# Altium footprint library PCB_ConnectorCable.PcbLib: 8 footprints
Each footprint in its own frame and in the unit in brackets; x right, y up, seen from the top. Pads: shape width x height; smd on the part's side, far side on the other; paste and mask are expansions set on the pad; w line width, h text height; cw(c..) or ccw(c..) is an arc to the next point about the centre after c.
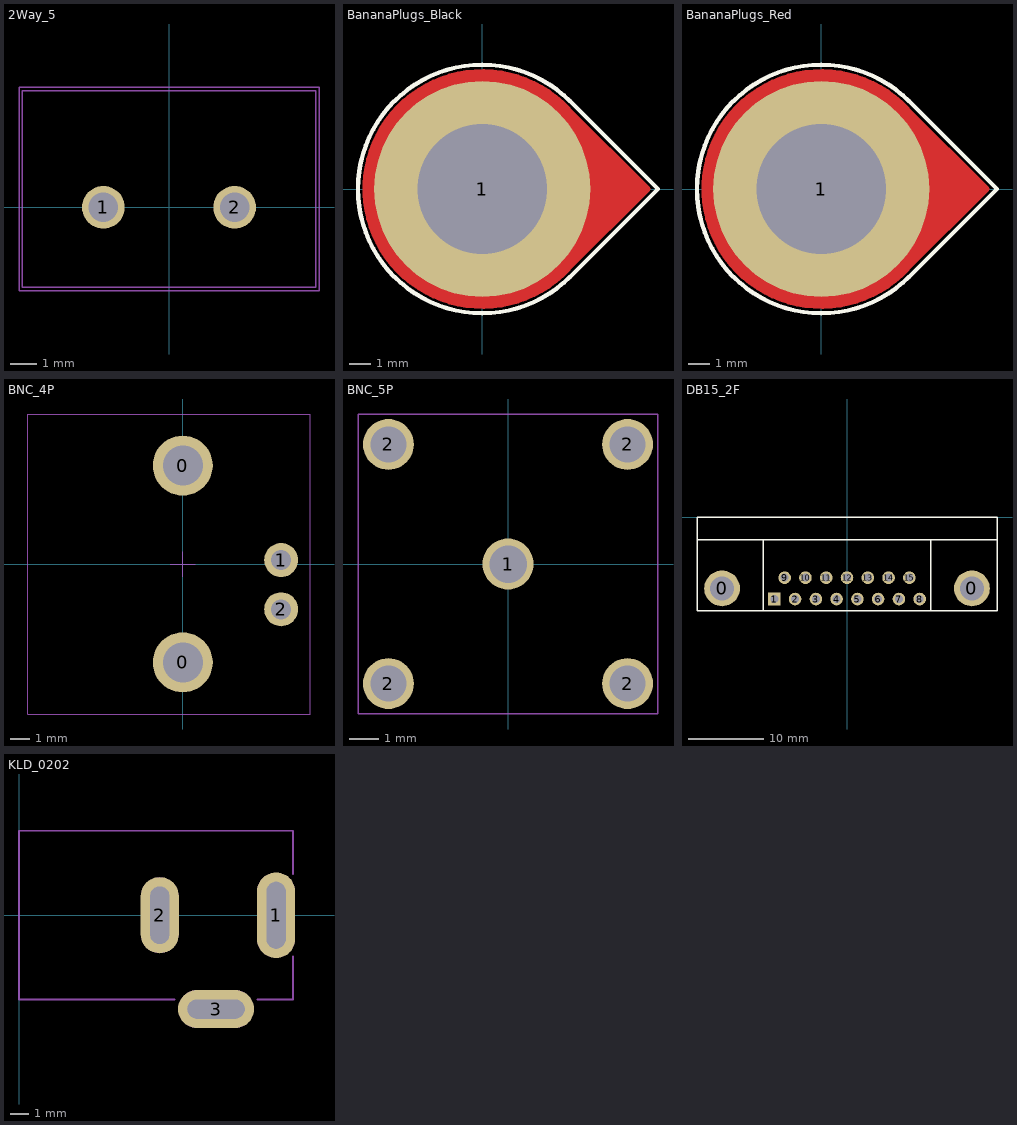
[diagram p0: the footprints below, top view; thin cyan lines are the x and y axes]

## 2Way_5 [mil]
height 501.97
pads (2):
  round 64 hole 44: 1(-98.43,0) 2(98.43,0)
Mechanical 13:
  lines w2: -220,-120 220,-120 220,175 -220,175 -220,-120
T-Component:
  lines w2: -225,-125 -225,180 225,180 225,-125 -225,-125
3D body: height 590.55, standoff -137.8, extent -224.65,-185 197.8,189.02

## BananaPlugs_Black [mil]
pads (1):
  round 400 hole 240: 1(0,0)
Top Layer:
  region: 158.64,-146.59 152.39,-153.35 131.77,-171.73 108.23,-187.46 82.84,-199.99 56.02,-209.09 28.25,-214.61 0,-216.46 -28.25,-214.61 -56.02,-209.09 -82.84,-199.99 -108.23,-187.46 -131.77,-171.73 -153.06,-153.06 -171.73,-131.77 -187.46,-108.23 -199.99,-82.84 -209.09,-56.02 -214.61,-28.25 -216.46,0 -214.61,28.25 -209.09,56.02 -199.99,82.84 -187.46,108.23 -171.73,131.77 -153.06,153.06 -131.77,171.73 -108.23,187.46 -82.84,199.99 -56.02,209.09 -28.25,214.61 0,216.46 28.25,214.61 56.02,209.09 82.84,199.99 108.23,187.46 131.77,171.73 152.39,153.35 158.64,146.59 159,146 305,0
  lines w12: 158.64,-146.59 cw(c0,0) 158.64,146.59 ; 159,-146 305,0 159,146
Bottom Layer:
  region: 158.64,-146.59 152.39,-153.35 131.77,-171.73 108.23,-187.46 82.84,-199.99 56.02,-209.09 28.25,-214.61 0,-216.46 -28.25,-214.61 -56.02,-209.09 -82.84,-199.99 -108.23,-187.46 -131.77,-171.73 -153.06,-153.06 -171.73,-131.77 -187.46,-108.23 -199.99,-82.84 -209.09,-56.02 -214.61,-28.25 -216.46,0 -214.61,28.25 -209.09,56.02 -199.99,82.84 -187.46,108.23 -171.73,131.77 -153.06,153.06 -131.77,171.73 -108.23,187.46 -82.84,199.99 -56.02,209.09 -28.25,214.61 0,216.46 28.25,214.61 56.02,209.09 82.84,199.99 108.23,187.46 131.77,171.73 152.39,153.35 158.64,146.59 159,146 305,0
Top Overlay:
  lines w8: 162.63,-162.63 cw(c0,0) 162.63,162.63 325.27,0 162.63,-162.63
Bottom Overlay:
  lines w8: 162.63,-162.63 cw(c0,0) 162.63,162.63 325.27,0 162.63,-162.63
Top Solder:
  region: 158.64,-146.59 152.39,-153.35 131.77,-171.73 108.23,-187.46 82.84,-199.99 56.02,-209.09 28.25,-214.61 0,-216.46 -28.25,-214.61 -56.02,-209.09 -82.84,-199.99 -108.23,-187.46 -131.77,-171.73 -153.06,-153.06 -171.73,-131.77 -187.46,-108.23 -199.99,-82.84 -209.09,-56.02 -214.61,-28.25 -216.46,0 -214.61,28.25 -209.09,56.02 -199.99,82.84 -187.46,108.23 -171.73,131.77 -153.06,153.06 -131.77,171.73 -108.23,187.46 -82.84,199.99 -56.02,209.09 -28.25,214.61 0,216.46 28.25,214.61 56.02,209.09 82.84,199.99 108.23,187.46 131.77,171.73 152.39,153.35 158.64,146.59 159,146 305,0
Bottom Solder:
  region: 158.64,-146.59 152.39,-153.35 131.77,-171.73 108.23,-187.46 82.84,-199.99 56.02,-209.09 28.25,-214.61 0,-216.46 -28.25,-214.61 -56.02,-209.09 -82.84,-199.99 -108.23,-187.46 -131.77,-171.73 -153.06,-153.06 -171.73,-131.77 -187.46,-108.23 -199.99,-82.84 -209.09,-56.02 -214.61,-28.25 -216.46,0 -214.61,28.25 -209.09,56.02 -199.99,82.84 -187.46,108.23 -171.73,131.77 -153.06,153.06 -131.77,171.73 -108.23,187.46 -82.84,199.99 -56.02,209.09 -28.25,214.61 0,216.46 28.25,214.61 56.02,209.09 82.84,199.99 108.23,187.46 131.77,171.73 152.39,153.35 158.64,146.59 159,146 305,0
3D body: height 326.77, standoff -303.18, extent -222.44,-222.19 456.69,222.19

## BananaPlugs_Red [mil]
pads (1):
  round 400 hole 240: 1(0,0)
Top Layer:
  region: 158.64,-146.59 152.39,-153.35 131.77,-171.73 108.23,-187.46 82.84,-199.99 56.02,-209.09 28.25,-214.61 0,-216.46 -28.25,-214.61 -56.02,-209.09 -82.84,-199.99 -108.23,-187.46 -131.77,-171.73 -153.06,-153.06 -171.73,-131.77 -187.46,-108.23 -199.99,-82.84 -209.09,-56.02 -214.61,-28.25 -216.46,0 -214.61,28.25 -209.09,56.02 -199.99,82.84 -187.46,108.23 -171.73,131.77 -153.06,153.06 -131.77,171.73 -108.23,187.46 -82.84,199.99 -56.02,209.09 -28.25,214.61 0,216.46 28.25,214.61 56.02,209.09 82.84,199.99 108.23,187.46 131.77,171.73 152.39,153.35 158.64,146.59 159,146 305,0
  lines w12: 158.64,-146.59 cw(c0,0) 158.64,146.59 ; 159,-146 305,0 159,146
Bottom Layer:
  region: 158.64,-146.59 152.39,-153.35 131.77,-171.73 108.23,-187.46 82.84,-199.99 56.02,-209.09 28.25,-214.61 0,-216.46 -28.25,-214.61 -56.02,-209.09 -82.84,-199.99 -108.23,-187.46 -131.77,-171.73 -153.06,-153.06 -171.73,-131.77 -187.46,-108.23 -199.99,-82.84 -209.09,-56.02 -214.61,-28.25 -216.46,0 -214.61,28.25 -209.09,56.02 -199.99,82.84 -187.46,108.23 -171.73,131.77 -153.06,153.06 -131.77,171.73 -108.23,187.46 -82.84,199.99 -56.02,209.09 -28.25,214.61 0,216.46 28.25,214.61 56.02,209.09 82.84,199.99 108.23,187.46 131.77,171.73 152.39,153.35 158.64,146.59 159,146 305,0
Top Overlay:
  lines w8: 162.63,-162.63 cw(c0,0) 162.63,162.63 325.27,0 162.63,-162.63
Bottom Overlay:
  lines w8: 162.63,-162.63 cw(c0,0) 162.63,162.63 325.27,0 162.63,-162.63
Top Solder:
  region: 158.64,-146.59 152.39,-153.35 131.77,-171.73 108.23,-187.46 82.84,-199.99 56.02,-209.09 28.25,-214.61 0,-216.46 -28.25,-214.61 -56.02,-209.09 -82.84,-199.99 -108.23,-187.46 -131.77,-171.73 -153.06,-153.06 -171.73,-131.77 -187.46,-108.23 -199.99,-82.84 -209.09,-56.02 -214.61,-28.25 -216.46,0 -214.61,28.25 -209.09,56.02 -199.99,82.84 -187.46,108.23 -171.73,131.77 -153.06,153.06 -131.77,171.73 -108.23,187.46 -82.84,199.99 -56.02,209.09 -28.25,214.61 0,216.46 28.25,214.61 56.02,209.09 82.84,199.99 108.23,187.46 131.77,171.73 152.39,153.35 158.64,146.59 159,146 305,0
Bottom Solder:
  region: 158.64,-146.59 152.39,-153.35 131.77,-171.73 108.23,-187.46 82.84,-199.99 56.02,-209.09 28.25,-214.61 0,-216.46 -28.25,-214.61 -56.02,-209.09 -82.84,-199.99 -108.23,-187.46 -131.77,-171.73 -153.06,-153.06 -171.73,-131.77 -187.46,-108.23 -199.99,-82.84 -209.09,-56.02 -214.61,-28.25 -216.46,0 -214.61,28.25 -209.09,56.02 -199.99,82.84 -187.46,108.23 -171.73,131.77 -153.06,153.06 -131.77,171.73 -108.23,187.46 -82.84,199.99 -56.02,209.09 -28.25,214.61 0,216.46 28.25,214.61 56.02,209.09 82.84,199.99 108.23,187.46 131.77,171.73 152.39,153.35 158.64,146.59 159,146 305,0
3D body: height 326.77, standoff -303.18, extent -222.45,-222.2 456.69,222.18

## BNC_4P [mil]
pads (4):
  round 120 hole 80: 0(0,-196.85) 0(0,196.85)
  round 68 hole 40: 1(196.85,7.87) 2(196.85,-90.55)
Mechanical 13:
  lines w2: -25,0 25,0 ; 0,-25 0,25
T-Component:
  lines w2: -310,-300 -310,300 255,300 255,-300 -310,-300
3D body: height 519.2, standoff -161.8, extent -1124.99,-290.5 250.01,290.5

## BNC_5P [mil]
pads (5):
  round 68 hole 50: 1(0,0)
  round 68 hole 48: 2(-159.45,-159.45) 2(-159.45,159.45) 2(159.45,-159.45) 2(159.45,159.45)
T-Component:
  lines w2: -200,-200 -200,200 200,200 200,-200 -200,-200
3D body: height 600.39, standoff -177.17, extent -216.53,-216.53 1043.31,216.54

## DB15_2F [mil]
height 501.97
pads (17):
  round 188 hole 125: 0(-655.91,-374.02) 0(655.91,-374.02)
  rect 66x66 hole 42: 1(-381.69,-429.92)
  round 66 hole 42: 2(-272.64,-429.92) 3(-163.58,-429.92) 4(-54.53,-429.92) 5(54.53,-429.92) 6(163.58,-429.92) 7(272.64,-429.92) 8(381.69,-429.92) 9(-327.17,-318.11) 10(-218.11,-318.11) 11(-109.05,-318.11) 12(0,-318.11) 13(109.06,-318.11) 14(218.11,-318.11) 15(327.17,-318.11)
Top Overlay:
  lines w7.87: -787.4,-118.11 787.4,-118.11 ; -438.58,-492.13 -438.58,-118.11 ; 438.58,-492.13 438.58,-118.11 ; -787.4,-492.13 -787.4,0 787.4,0 787.4,-492.13 -787.4,-492.13
3D body: height 494.09, standoff -137.8, extent -779.92,-500 779.92,224.41

## DB15_3F [mil]
height 501.97
3D body: height 494.09, standoff -141.73, extent -386.49,-2213.58 826.5,-1339
3D body: height 246.06, standoff -279.2, extent 988.71,-2071.33 2201.3,-1541.02

## KLD_0202 [mil]
pads (3):
  oval 80x180 hole 40 slot 140 at 90 deg: 1(539.37,0)
  oval 80x160 hole 40 slot 120 at 90 deg: 2(295.28,0)
  oval 160x80 hole 40 slot 120 at 0 deg: 3(413.39,-196.85)
Mechanical 2:
  lines w79.37: 295.28,-39.37 295.28,39.37 ; 374.02,-196.85 452.76,-196.85 ; 539.37,-49.21 539.37,49.21
Mechanical 13:
  lines w4: 326.77,-177.17 0,-177.17 0,177.17 574.8,177.17 574.8,86.61 ; 500,-177.17 574.8,-177.17 574.8,-86.61
3D body: height 433.07, standoff -200.79, extent -9.25,-212.75 561.62,173.07